# EAGLE library part MPU-9250 (library MPU-9250)
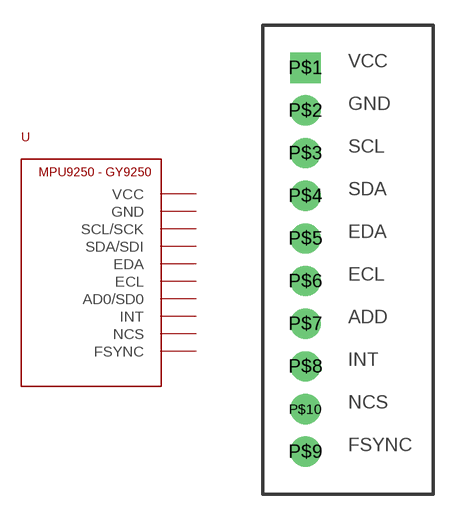
[diagram p0: symbol with the pads of GY-9250; footprint GY-9250]

Designator prefix U

## MPU-9250  [GY-9250]
P$1  VCC  pwr
P$2  GND  pwr
P$3  SCL/SCK
P$4  SDA/SDI
P$5  EDA
P$6  ECL
P$7  AD0/SD0
P$8  INT
P$9  NCS
P$10  FSYNC

## Footprint GY-9250 (pad centres in mm)
drill 1.2 square: P$1 0,0
drill 1.2: P$2 0,-2.54; P$3 0,-5.08; P$4 0,-7.62; P$5 0,-10.16; P$6 0,-12.7; P$7 0,-15.24; P$8 0,-17.78; P$9 0,-22.86; P$10 0,-20.32